# Altium footprint library jointbar.PCBLIB: 193 footprints (part 13 of 13)
Each footprint in its own frame and in the unit in brackets; x right, y up, seen from the top. Pads: shape width x height; smd on the part's side, far side on the other; paste and mask are expansions set on the pad; w line width, h text height; cw(c..) or ccw(c..) is an arc to the next point about the centre after c.
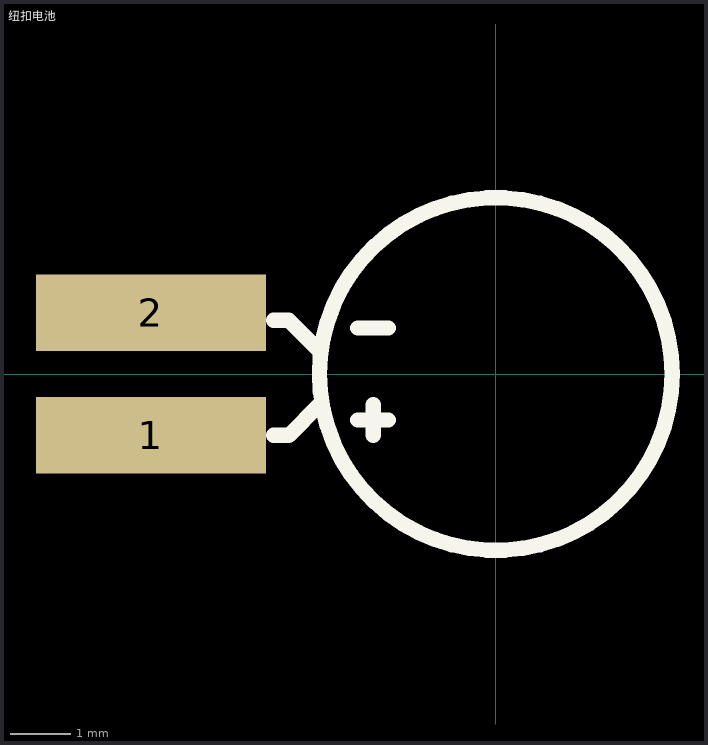
[diagram p12: the footprint, top view; thin cyan lines are the x and y axes]

## 纽扣电池 [mil]
pads (2):
  rect 150x50 smd: 1(-225,-40) 2(-225,40)
TopOverlay:
  circle w10: c0,0 r115
  lines w10: -145,-40 -135,-40 -115,-20 ; -145,35 -135,35 -115,15 ; -90,-30 -70,-30 ; -90,30 -70,30 ; -80,-40 -80,-20